# EAGLE library part LBM313-2540 (library LBM313-2540)
Bluetooth 4.0 Module. Documentation at: http://punchthrough.com/docs/doku.php?id=lbm313
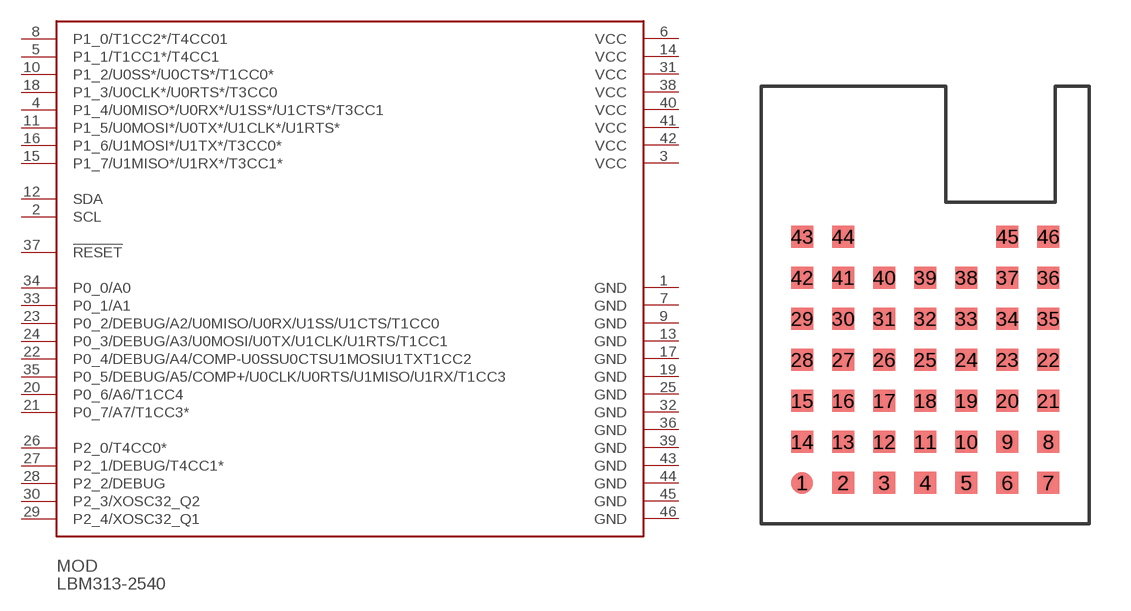
[diagram p0: symbol with the pads of LBM313-2540; footprint LBM313-2540]

Designator prefix MOD

## LBM313-2540  [LBM313-2540]
1  GND
2  SCL
3  VCC
4  P1_4/U0MISO*/U0RX*/U1SS*/U1CTS*/T3CC1
5  P1_1/T1CC1*/T4CC1
6  VCC
7  GND
8  P1_0/T1CC2*/T4CC01
9  GND
10  P1_2/U0SS*/U0CTS*/T1CC0*
11  P1_5/U0MOSI*/U0TX*/U1CLK*/U1RTS*
12  SDA
13  GND
14  VCC
15  P1_7/U1MISO*/U1RX*/T3CC1*
16  P1_6/U1MOSI*/U1TX*/T3CC0*
17  GND
18  P1_3/U0CLK*/U0RTS*/T3CC0
19  GND
20  P0_6/A6/T1CC4
21  P0_7/A7/T1CC3*
22  P0_4/DEBUG/A4/COMP-U0SSU0CTSU1MOSIU1TXT1CC2
23  P0_2/DEBUG/A2/U0MISO/U0RX/U1SS/U1CTS/T1CC0
24  P0_3/DEBUG/A3/U0MOSI/U0TX/U1CLK/U1RTS/T1CC1
25  GND
26  P2_0/T4CC0*
27  P2_1/DEBUG/T4CC1*
28  P2_2/DEBUG
29  P2_4/XOSC32_Q1
30  P2_3/XOSC32_Q2
31  VCC
32  GND
33  P0_1/A1
34  P0_0/A0
35  P0_5/DEBUG/A5/COMP+/U0CLK/U0RTS/U1MISO/U1RX/T1CC3
36  GND
37  !RESET!
38  VCC
39  GND
40  VCC
41  VCC
42  VCC
43  GND
44  GND
45  GND
46  GND

## Footprint LBM313-2540 (pad centres in mm)
Documentation at http://punchthrough.com/docs/doku.php?id=lbm313
smd 0.8 x 0.8: 1 -4.85,-4.85; 2 -3.35,-4.85; 3 -1.85,-4.85; 4 -0.35,-4.85; 5 1.15,-4.85; 6 2.65,-4.85; 7 4.15,-4.85; 8 4.15,-3.35; 9 2.65,-3.35; 10 1.15,-3.35; 11 -0.35,-3.35; 12 -1.85,-3.35; 13 -3.35,-3.35; 14 -4.85,-3.35; 15 -4.85,-1.85; 16 -3.35,-1.85; 17 -1.85,-1.85; 18 -0.35,-1.85; 19 1.15,-1.85; 20 2.65,-1.85; 21 4.15,-1.85; 22 4.15,-0.35; 23 2.65,-0.35; 24 1.15,-0.35; 25 -0.35,-0.35; 26 -1.85,-0.35; 27 -3.35,-0.35; 28 -4.85,-0.35; 29 -4.85,1.15; 30 -3.35,1.15; 31 -1.85,1.15; 32 -0.35,1.15; 33 1.15,1.15; 34 2.65,1.15; 35 4.15,1.15; 36 4.15,2.65; 37 2.65,2.65; 38 1.15,2.65; 39 -0.35,2.65; 40 -1.85,2.65; 41 -3.35,2.65; 42 -4.85,2.65; 43 -4.85,4.15; 44 -3.35,4.15; 45 2.65,4.15; 46 4.15,4.15